# Altium footprint library URB24_LD-60WR3.PcbLib: 1 footprints
Each footprint in its own frame and in the unit in brackets; x right, y up, seen from the top. Pads: shape width x height; smd on the part's side, far side on the other; paste and mask are expansions set on the pad; w line width, h text height; cw(c..) or ccw(c..) is an arc to the next point about the centre after c.
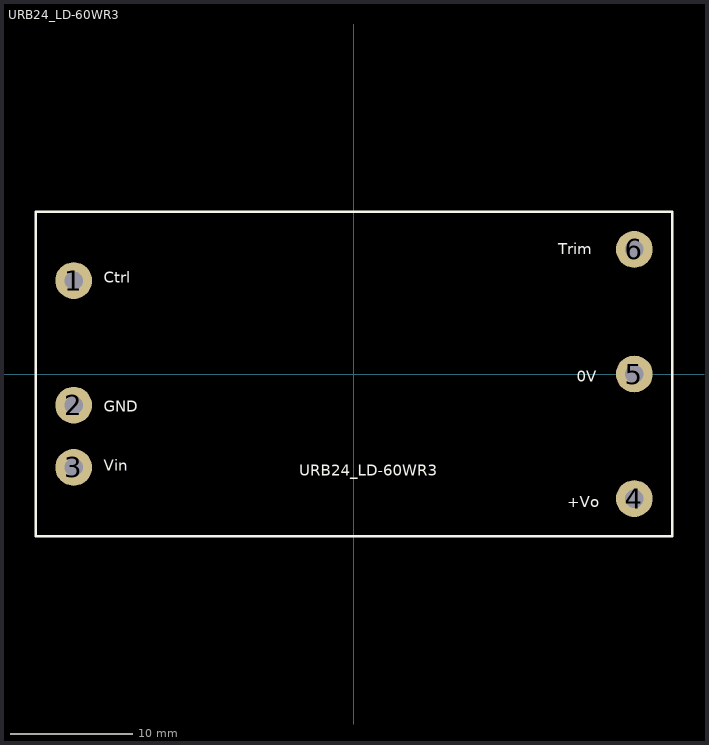
[diagram p0: the footprint, top view; thin cyan lines are the x and y axes]

## URB24_LD-60WR3 [mm]
pads (6):
  round 3 hole 1.5: 1(-22.86,7.62) 2(-22.86,-2.54) 3(-22.86,-7.62) 4(22.86,-10.16) 5(22.86,0) 6(22.86,10.16)
Top Overlay:
  lines w0.2: -25.95,-13.25 -25.95,13.25 25.95,13.25 25.95,-13.25 -25.95,-13.25
  text "URB24_LD-60WR3" at -4.445,-8.636 h1.52
  text "Ctrl" at -20.416,7.121 h1.52
  text "GND" at -20.416,-3.398 h1.52
  text "Vin" at -20.417,-8.212 h1.52
  text "+Vo" at 17.41,-11.211 h1.52
  text "0V" at 18.16,-0.971 h1.52
  text "Trim" at 16.654,9.457 h1.52